# Altium footprint library BGA.PcbLib: 1 footprints
Each footprint in its own frame and in the unit in brackets; x right, y up, seen from the top. Pads: shape width x height; smd on the part's side, far side on the other; paste and mask are expansions set on the pad; w line width, h text height; cw(c..) or ccw(c..) is an arc to the next point about the centre after c.
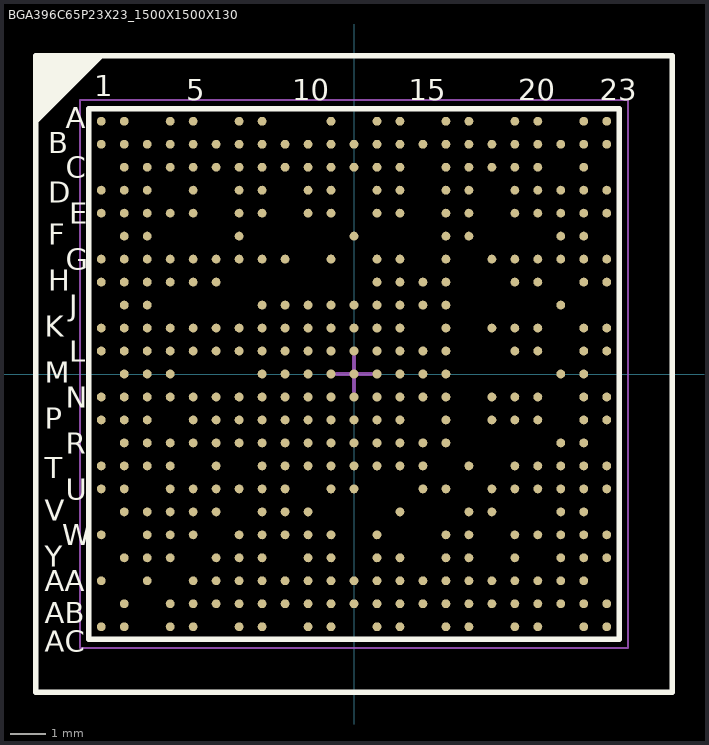
[diagram p0: the footprint, top view; thin cyan lines are the x and y axes]

## BGA396C65P23X23_1500X1500X130 [mm] "BGA, 396-Leads, Body 15.00x15.00mmx1.30mm, Pitch 0.65mm"
height 1.3
pads (396):
  round 0.25 smd: A1(-7.15,7.15) A2(-6.5,7.15) A4(-5.2,7.15) A5(-4.55,7.15) A7(-3.25,7.15) A8(-2.6,7.15) A11(-0.65,7.15) A13(0.65,7.15) A14(1.3,7.15) A16(2.6,7.15) A17(3.25,7.15) A19(4.55,7.15) A20(5.2,7.15) A22(6.5,7.15) A23(7.15,7.15) AA1(-7.15,-5.85) AA3(-5.85,-5.85) AA5(-4.55,-5.85) AA6(-3.9,-5.85) AA7(-3.25,-5.85) AA8(-2.6,-5.85) AA9(-1.95,-5.85) AA10(-1.3,-5.85) AA11(-0.65,-5.85) AA12(0,-5.85) AA13(0.65,-5.85) AA14(1.3,-5.85) AA15(1.95,-5.85) AA16(2.6,-5.85) AA17(3.25,-5.85) AA18(3.9,-5.85) AA19(4.55,-5.85) AA20(5.2,-5.85) AA21(5.85,-5.85) AA22(6.5,-5.85) AB2(-6.5,-6.5) AB4(-5.2,-6.5) AB5(-4.55,-6.5) AB6(-3.9,-6.5) AB7(-3.25,-6.5) AB8(-2.6,-6.5) AB9(-1.95,-6.5) AB10(-1.3,-6.5) AB11(-0.65,-6.5) AB12(0,-6.5) AB13(0.65,-6.5) AB14(1.3,-6.5) AB15(1.95,-6.5) AB16(2.6,-6.5) AB17(3.25,-6.5) AB18(3.9,-6.5) AB19(4.55,-6.5) AB20(5.2,-6.5) AB21(5.85,-6.5) AB22(6.5,-6.5) AB23(7.15,-6.5) AC1(-7.15,-7.15) AC2(-6.5,-7.15) AC4(-5.2,-7.15) AC5(-4.55,-7.15) AC7(-3.25,-7.15) AC8(-2.6,-7.15) AC10(-1.3,-7.15) AC11(-0.65,-7.15) AC13(0.65,-7.15) AC14(1.3,-7.15) AC16(2.6,-7.15) AC17(3.25,-7.15) AC19(4.55,-7.15) AC20(5.2,-7.15) AC22(6.5,-7.15) AC23(7.15,-7.15) B1(-7.15,6.5) B2(-6.5,6.5) B3(-5.85,6.5) B4(-5.2,6.5) B5(-4.55,6.5) B6(-3.9,6.5) B7(-3.25,6.5) B8(-2.6,6.5) B9(-1.95,6.5) B10(-1.3,6.5) B11(-0.65,6.5) B12(0,6.5) B13(0.65,6.5) B14(1.3,6.5) B15(1.95,6.5) B16(2.6,6.5) B17(3.25,6.5) B18(3.9,6.5) B19(4.55,6.5) B20(5.2,6.5) B21(5.85,6.5) B22(6.5,6.5) B23(7.15,6.5) C2(-6.5,5.85) C3(-5.85,5.85) C4(-5.2,5.85) C5(-4.55,5.85) C6(-3.9,5.85) C7(-3.25,5.85) C8(-2.6,5.85) C9(-1.95,5.85) C10(-1.3,5.85) C11(-0.65,5.85) C12(0,5.85) C13(0.65,5.85) C14(1.3,5.85) C16(2.6,5.85) C17(3.25,5.85) C18(3.9,5.85) C19(4.55,5.85) C20(5.2,5.85) C22(6.5,5.85) D1(-7.15,5.2) D2(-6.5,5.2) D3(-5.85,5.2) D5(-4.55,5.2) D7(-3.25,5.2) D8(-2.6,5.2) D10(-1.3,5.2) D11(-0.65,5.2) D13(0.65,5.2) D14(1.3,5.2) D16(2.6,5.2) D17(3.25,5.2) D19(4.55,5.2) D20(5.2,5.2) D21(5.85,5.2) D22(6.5,5.2) D23(7.15,5.2) E1(-7.15,4.55) E2(-6.5,4.55) E3(-5.85,4.55) E4(-5.2,4.55) E5(-4.55,4.55) E7(-3.25,4.55) E8(-2.6,4.55) E10(-1.3,4.55) E11(-0.65,4.55) E13(0.65,4.55) E14(1.3,4.55) E16(2.6,4.55) E17(3.25,4.55) E19(4.55,4.55) E20(5.2,4.55) E21(5.85,4.55) E22(6.5,4.55) E23(7.15,4.55) F2(-6.5,3.9) F3(-5.85,3.9) F7(-3.25,3.9) F12(0,3.9) F16(2.6,3.9) F17(3.25,3.9) F21(5.85,3.9) F22(6.5,3.9) G1(-7.15,3.25) G2(-6.5,3.25) G3(-5.85,3.25) G4(-5.2,3.25) G5(-4.55,3.25) G6(-3.9,3.25) G7(-3.25,3.25) G8(-2.6,3.25) G9(-1.95,3.25) G11(-0.65,3.25) G13(0.65,3.25) G14(1.3,3.25) G16(2.6,3.25) G18(3.9,3.25) G19(4.55,3.25) G20(5.2,3.25) G21(5.85,3.25) G22(6.5,3.25) G23(7.15,3.25) H1(-7.15,2.6) H2(-6.5,2.6) H3(-5.85,2.6) H4(-5.2,2.6) H5(-4.55,2.6) H6(-3.9,2.6) H13(0.65,2.6) H14(1.3,2.6) H15(1.95,2.6) H16(2.6,2.6) H19(4.55,2.6) H20(5.2,2.6) H22(6.5,2.6) H23(7.15,2.6) J2(-6.5,1.95) J3(-5.85,1.95) J8(-2.6,1.95) J9(-1.95,1.95) J10(-1.3,1.95) J11(-0.65,1.95) J12(0,1.95) J13(0.65,1.95) J14(1.3,1.95) J15(1.95,1.95) J16(2.6,1.95) J21(5.85,1.95) K1(-7.15,1.3) K2(-6.5,1.3) K3(-5.85,1.3) K4(-5.2,1.3) K5(-4.55,1.3) K6(-3.9,1.3) K7(-3.25,1.3) K8(-2.6,1.3) K9(-1.95,1.3) K10(-1.3,1.3) K11(-0.65,1.3) K12(0,1.3) K13(0.65,1.3) K14(1.3,1.3) K16(2.6,1.3) K18(3.9,1.3) K19(4.55,1.3) K20(5.2,1.3) K22(6.5,1.3) K23(7.15,1.3) L1(-7.15,0.65) L2(-6.5,0.65) L3(-5.85,0.65) L4(-5.2,0.65) L5(-4.55,0.65) L6(-3.9,0.65) L7(-3.25,0.65) L8(-2.6,0.65) L9(-1.95,0.65) L10(-1.3,0.65) L11(-0.65,0.65) L12(0,0.65) L13(0.65,0.65) L14(1.3,0.65) L15(1.95,0.65) L16(2.6,0.65) L19(4.55,0.65) L20(5.2,0.65) L22(6.5,0.65) L23(7.15,0.65) M2(-6.5,0) M3(-5.85,0) M4(-5.2,0) M8(-2.6,0) M9(-1.95,0) M10(-1.3,0) M11(-0.65,0) M12(0,0) M13(0.65,0) M14(1.3,0) M15(1.95,0) M16(2.6,0) M21(5.85,0) M22(6.5,0) N1(-7.15,-0.65) N2(-6.5,-0.65) N3(-5.85,-0.65) N4(-5.2,-0.65) N5(-4.55,-0.65) N6(-3.9,-0.65) N7(-3.25,-0.65) N8(-2.6,-0.65) N9(-1.95,-0.65) N10(-1.3,-0.65) N11(-0.65,-0.65) N12(0,-0.65) N13(0.65,-0.65) N14(1.3,-0.65) N15(1.95,-0.65) N16(2.6,-0.65) N18(3.9,-0.65) N19(4.55,-0.65) N20(5.2,-0.65) N22(6.5,-0.65) N23(7.15,-0.65) P1(-7.15,-1.3) P2(-6.5,-1.3) P3(-5.85,-1.3) P5(-4.55,-1.3) P6(-3.9,-1.3) P7(-3.25,-1.3) P8(-2.6,-1.3) P9(-1.95,-1.3) P10(-1.3,-1.3) P11(-0.65,-1.3) P12(0,-1.3) P13(0.65,-1.3) P14(1.3,-1.3) P16(2.6,-1.3) P18(3.9,-1.3) P19(4.55,-1.3) P20(5.2,-1.3) P22(6.5,-1.3) P23(7.15,-1.3) R2(-6.5,-1.95) R3(-5.85,-1.95) R4(-5.2,-1.95) R5(-4.55,-1.95) R6(-3.9,-1.95) R7(-3.25,-1.95) R8(-2.6,-1.95) R9(-1.95,-1.95) R10(-1.3,-1.95) R11(-0.65,-1.95) R12(0,-1.95) R13(0.65,-1.95) R14(1.3,-1.95) R15(1.95,-1.95) R16(2.6,-1.95) R21(5.85,-1.95) R22(6.5,-1.95) T1(-7.15,-2.6) T2(-6.5,-2.6) T3(-5.85,-2.6) T4(-5.2,-2.6) T6(-3.9,-2.6) T8(-2.6,-2.6) T9(-1.95,-2.6) T10(-1.3,-2.6) T11(-0.65,-2.6) T12(0,-2.6) T13(0.65,-2.6) T14(1.3,-2.6) T15(1.95,-2.6) T17(3.25,-2.6) T19(4.55,-2.6) T20(5.2,-2.6) T21(5.85,-2.6) T22(6.5,-2.6) T23(7.15,-2.6) U1(-7.15,-3.25) U2(-6.5,-3.25) U4(-5.2,-3.25) U5(-4.55,-3.25) U6(-3.9,-3.25) U7(-3.25,-3.25) U8(-2.6,-3.25) U9(-1.95,-3.25) U11(-0.65,-3.25) U12(0,-3.25) U15(1.95,-3.25) U16(2.6,-3.25) U18(3.9,-3.25) U19(4.55,-3.25) U20(5.2,-3.25) U21(5.85,-3.25) U22(6.5,-3.25) U23(7.15,-3.25) V2(-6.5,-3.9) V3(-5.85,-3.9) V4(-5.2,-3.9) V5(-4.55,-3.9) V6(-3.9,-3.9) V8(-2.6,-3.9) V9(-1.95,-3.9) V10(-1.3,-3.9) V14(1.3,-3.9) V17(3.25,-3.9) V18(3.9,-3.9) V21(5.85,-3.9) V22(6.5,-3.9) W1(-7.15,-4.55) W3(-5.85,-4.55) W4(-5.2,-4.55) W5(-4.55,-4.55) W7(-3.25,-4.55) W8(-2.6,-4.55) W9(-1.95,-4.55) W10(-1.3,-4.55) W11(-0.65,-4.55) W13(0.65,-4.55) W16(2.6,-4.55) W17(3.25,-4.55) W19(4.55,-4.55) W20(5.2,-4.55) W21(5.85,-4.55) W22(6.5,-4.55) W23(7.15,-4.55) Y2(-6.5,-5.2) Y3(-5.85,-5.2) Y4(-5.2,-5.2) Y6(-3.9,-5.2) Y7(-3.25,-5.2) Y8(-2.6,-5.2) Y10(-1.3,-5.2) Y11(-0.65,-5.2) Y13(0.65,-5.2) Y14(1.3,-5.2) Y16(2.6,-5.2) Y17(3.25,-5.2) Y19(4.55,-5.2) Y21(5.85,-5.2) Y22(6.5,-5.2) Y23(7.15,-5.2)
Top Overlay:
  region: -8.95,7.1 -8.95,8.95 -7.1,8.95
  lines w0.15: -9,-9 -9,9 9,9 9,-9 -9,-9 ; -7.5,-7.5 -7.5,0 -7.5,7.5 7.5,7.5 7.5,-7.5 -7.5,-7.5
  text "D" at -8.65,4.85 h0.6
  text "E" at -8.05,4.25 h0.6
  text "F" at -8.65,3.65 h0.6
  text "U" at -8.15,-3.55 h0.6
  text "T" at -8.75,-2.95 h0.6
  text "R" at -8.15,-2.25 h0.6
  text "P" at -8.75,-1.55 h0.6
  text "N" at -8.15,-0.95 h0.6
  text "M" at -8.75,-0.25 h0.6
  text "L" at -8.05,0.35 h0.6
  text "J" at -8.05,1.65 h0.6
  text "H" at -8.65,2.35 h0.6
  text "C" at -8.15,5.55 h0.6
  text "A" at -8.15,6.95 h0.6
  text "B" at -8.65,6.25 h0.6
  text "G" at -8.15,2.95 h0.6
  text "K" at -8.75,1.05 h0.6
  text "20" at 4.65,7.75 h0.6
  text "15" at 1.55,7.75 h0.6
  text "5" at -4.75,7.75 h0.6
  text "23" at 6.95,7.75 h0.6
  text "10" at -1.75,7.75 h0.6
  text "1" at -7.35,7.85 h0.6
  text "V" at -8.75,-4.15 h0.6
  text "W" at -8.25,-4.85 h0.6
  text "Y" at -8.75,-5.45 h0.6
  text "AC" at -8.75,-7.85 h0.6
  text "AB" at -8.75,-7.05 h0.6
  text "AA" at -8.75,-6.15 h0.6
Mechanical 13:
  lines w0.1: -7.5,-7.5 7.5,-7.5 7.5,7.5 -7.5,7.5 -7.5,-7.5
Mechanical 15:
  lines w0.05: -7.75,-7.75 7.75,-7.75 7.75,7.75 -7.75,7.75 -7.75,-7.75
  lines w0.1: -0.5,0 0.5,0 ; 0,-0.5 0,0.5
3D body "BGA396C65P23X23_1500X1500X130.step": height 1.3, standoff 0, extent -7.5,-7.5 7.5,7.5